# Altium footprint library SOP254P960X390-6N.PcbLib: 1 footprints
Each footprint in its own frame and in the unit in brackets; x right, y up, seen from the top. Pads: shape width x height; smd on the part's side, far side on the other; paste and mask are expansions set on the pad; w line width, h text height; cw(c..) or ccw(c..) is an arc to the next point about the centre after c.
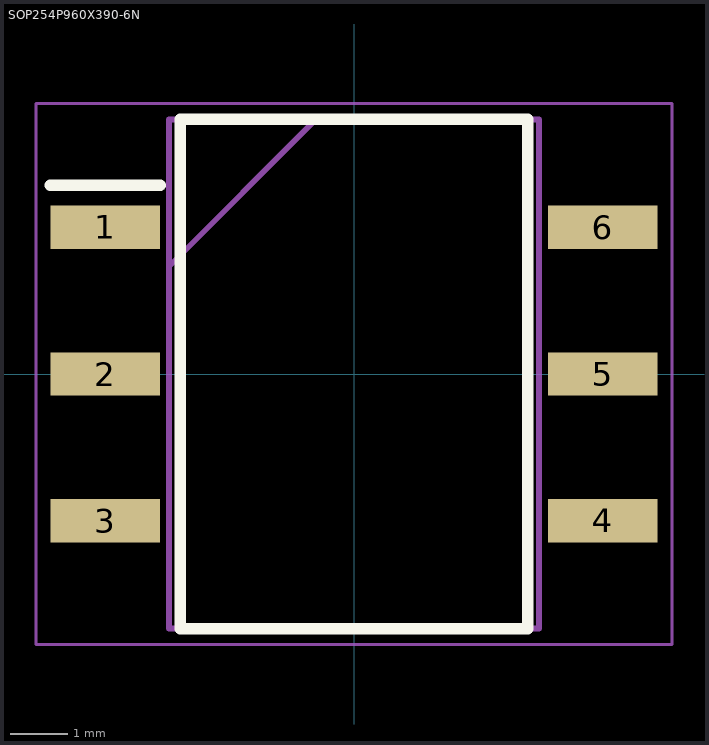
[diagram p0: the footprint, top view; thin cyan lines are the x and y axes]

## SOP254P960X390-6N [mm]
pads (6):
  rect 1.9x0.75 smd: 1(-4.3,2.54) 2(-4.3,0) 3(-4.3,-2.54) 4(4.3,-2.54) 5(4.3,0) 6(4.3,2.54)
Top Overlay:
  lines w0.2: -5.25,3.265 -3.35,3.265 ; -3,-4.4 3,-4.4 3,4.4 -3,4.4 -3,-4.4
Mechanical 15:
  lines w0.1: -3.2,1.86 -0.66,4.4 ; -3.2,-4.4 3.2,-4.4 3.2,4.4 -3.2,4.4 -3.2,-4.4
Mechanical 20:
  lines w0.05: -5.5,-4.675 5.5,-4.675 5.5,4.675 -5.5,4.675 -5.5,-4.675